# EAGLE library part 690_357_28_12_76 (library SHC)
MM MALE SMT CONNECTOR WITHOUT LATCH AND WITHOUT POLARIZATION
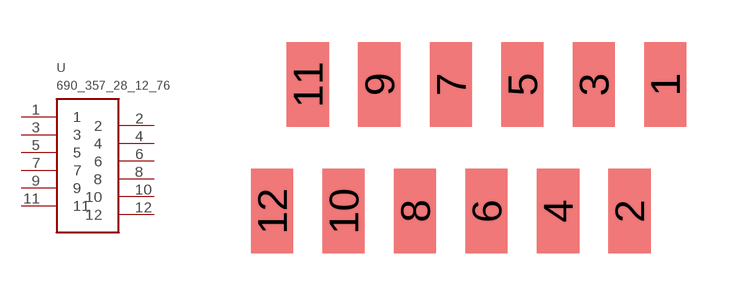
[diagram p14: symbol with the pads of 690_357_28_12_76; footprint 690_357_28_12_76]

Designator prefix -

## 690_357_28_12_76  [690_357_28_12_76]
1  1
2  2
3  3
4  4
5  5
6  6
7  7
8  8
9  9
10  10
11  11
12  12

## Footprint 690_357_28_12_76 (pad centres in mm)
smd 1.5 x 3: 1 7.62,3; 2 6.35,-1.5; 3 5.08,3; 4 3.81,-1.5; 5 2.54,3; 6 1.27,-1.5; 7 0,3; 8 -1.27,-1.5; 9 -2.54,3; 10 -3.81,-1.5; 11 -5.08,3; 12 -6.35,-1.5